# Altium footprint library Coilcraft.PcbLib: 1 footprints
Each footprint in its own frame and in the unit in brackets; x right, y up, seen from the top. Pads: shape width x height; smd on the part's side, far side on the other; paste and mask are expansions set on the pad; w line width, h text height; cw(c..) or ccw(c..) is an arc to the next point about the centre after c.
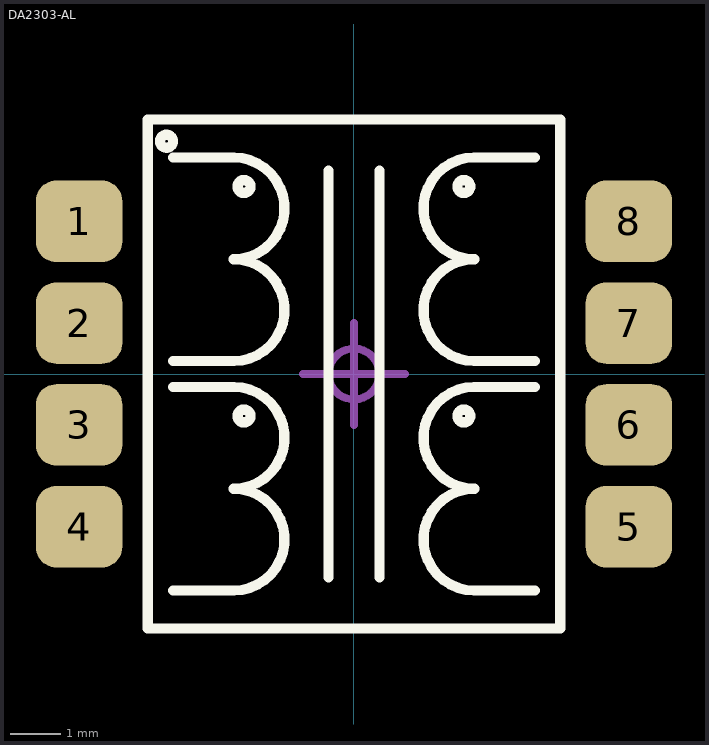
[diagram p0: the footprint, top view; thin cyan lines are the x and y axes]

## DA2303-AL [mm]
pads (8):
  rrect50% 1.7x1.6 smd: 1(-5.4,3) 2(-5.4,1) 3(-5.4,-1) 4(-5.4,-3) 5(5.4,-3) 6(5.4,-1) 7(5.4,1) 8(5.4,3)
Top Overlay:
  circle w0.2: c-2.159,3.683 r0.127
  circle w0.2: c-2.159,-0.825 r0.127
  circle w0.2: c2.159,-0.825 r0.127
  circle w0.2: c2.159,3.683 r0.127
  circle w0.2: c-3.683,4.572 r0.127
  lines w0.2: -3.556,-4.254 -2.356,-4.254 ; -3.556,-0.254 -2.356,-0.254 ; -3.556,0.254 -2.356,0.254 ; -3.556,4.254 -2.356,4.254 ; -2.365,-4.254 ccw(c-2.365,-3.254) -2.365,-2.254 ccw(c-2.365,-1.254) -2.365,-0.254 ; -2.365,0.254 ccw(c-2.365,1.254) -2.365,2.254 ccw(c-2.365,3.254) -2.365,4.254 ; -0.5,-4 -0.5,0 -0.5,4 ; 0.5,-4 0.5,0 0.5,4 ; 2.356,-4.254 3.556,-4.254 ; 2.356,-0.254 3.556,-0.254 ; 2.356,0.254 3.556,0.254 ; 2.356,4.254 3.556,4.254 ; 2.365,-4.254 cw(c2.365,-3.254) 2.365,-2.254 cw(c2.365,-1.254) 2.365,-0.254 ; 2.365,0.254 cw(c2.365,1.254) 2.365,2.254 cw(c2.365,3.254) 2.365,4.254 ; -4.05,-5 4.05,-5 4.05,5 -4.05,5 -4.05,-5
Mechanical 15:
  circle w0.152: c0,0 r0.5
  lines w0.152: -1,0 0,0 ; 0,-1 0,0 ; 0,1 0,0 ; 1,0 0,0
3D body "Coilcraft-DA2303-AL.STEP": height 5.98, standoff 0.01, extent -5.778,-5 5.778,5